# Altium footprint library Connectors.PcbLib: 26 footprints (part 2 of 2)
Each footprint in its own frame and in the unit in brackets; x right, y up, seen from the top. Pads: shape width x height; smd on the part's side, far side on the other; paste and mask are expansions set on the pad; w line width, h text height; cw(c..) or ccw(c..) is an arc to the next point about the centre after c.
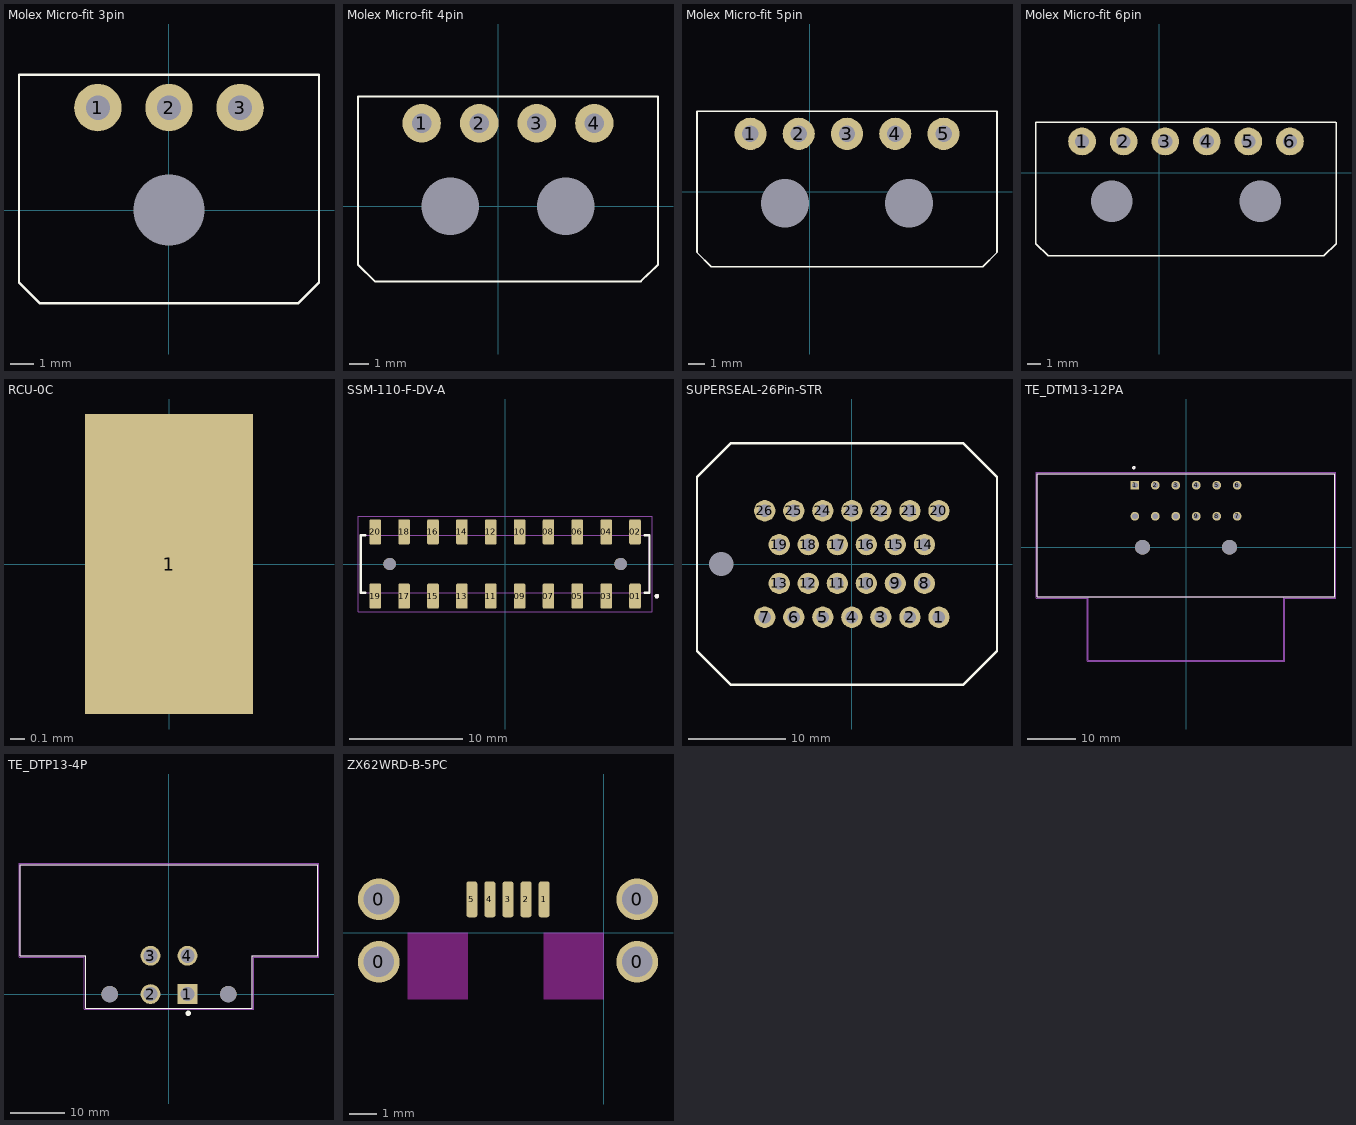
[diagram p1: the footprints below, top view; thin cyan lines are the x and y axes]

## Molex Micro-fit 3pin [mm]
pads (4):
  round 2 hole 1.02: 1(-2.997,4.32) 2(0.003,4.32) 3(3.003,4.32)
  round 0 hole 3 unplated: MH(0.003,0)
Top Overlay:
  lines w0.1: -6.322,-3.052 -6.322,5.715 6.328,5.715 6.328,-3.05 5.441,-3.935 -5.439,-3.935 -6.322,-3.052
3D body "436500302.stp": height 5.73, standoff -3.17, extent -6.325,-4.55 6.325,5.35

## Molex Micro-fit 4pin [mm]
pads (6):
  round 2 hole 1.02: 1(-3.997,4.32) 2(-0.997,4.32) 3(2.003,4.32) 4(5.003,4.32)
  round 0 hole 3 unplated: MH(-2.497,0) MH(3.503,0)
Top Overlay:
  lines w0.1: -7.322,-3.052 -7.322,5.715 8.328,5.715 8.328,-3.05 7.441,-3.935 -6.439,-3.935 -7.322,-3.052
3D body "436500402.stp": height 5.73, standoff -3.17, extent -7.325,-4.55 8.325,5.35

## Molex Micro-fit 5pin [mm]
pads (7):
  round 2 hole 1.02: 1(-3.68,3.605) 2(-0.68,3.605) 3(2.32,3.605) 4(5.32,3.605) 5(8.32,3.605)
  round 0 hole 3 unplated: MH(-1.53,-0.715) MH(6.17,-0.715)
Top Overlay:
  lines w0.1: -7,-3.767 -6.117,-4.65 10.761,-4.65 11.64,-3.765 11.64,5 -7,5 -7,-3.767
3D body "436500502.stp": height 5.73, standoff -3.17, extent -7,-5.3 11.64,4.6

## Molex Micro-fit 6pin [mm]
pads (8):
  round 2 hole 1.02: 1(-5.563,2.255) 2(-2.563,2.255) 3(0.437,2.255) 4(3.437,2.255) 5(6.437,2.255) 6(9.437,2.255)
  round 0 hole 3 unplated: MH(-3.413,-2.065) MH(7.287,-2.065)
Top Overlay:
  lines w0.1: -8.883,-5.117 -8,-6 11.878,-6 12.757,-5.115 12.757,3.65 -8.883,3.65 -8.883,-5.117
3D body "436500602.stp": height 5.73, standoff -3.17, extent -8.87,-6.65 12.77,3.25

## RCU-0C [mm]
pads (1):
  rect 1.15x2.05 smd: 1(0,0)
3D body "RCU-0C.STEP": height 1.16, standoff 0.01, extent -0.6,-0.775 0.6,0.825

## SSM-110-F-DV-A [mm]
pads (22):
  rrect25% 1.02x2.22 smd: 01(11.43,-2.825) 02(11.43,2.825) 03(8.89,-2.825) 04(8.89,2.825) 05(6.35,-2.825) 06(6.35,2.825) 07(3.81,-2.825) 08(3.81,2.825) 09(1.27,-2.825) 10(1.27,2.825) 11(-1.27,-2.825) 12(-1.27,2.825) 13(-3.81,-2.825) 14(-3.81,2.825) 15(-6.35,-2.825) 16(-6.35,2.825) 17(-8.89,-2.825) 18(-8.89,2.825) 19(-11.43,-2.825) 20(-11.43,2.825)
  round 1.09 hole 1.09 unplated: ""(-10.16,0) ""(10.16,0)
Top Overlay:
  circle w0.2: c13.35,-2.825 r0.1
  lines w0.2: -12.29,-2.54 -12.7,-2.54 -12.7,2.54 -12.29,2.54 ; 12.29,-2.54 12.7,-2.54 12.7,2.54 12.29,2.54
Mechanical 13:
  circle w0.2: c13.35,-2.825 r0.1
  lines w0.1: -12.7,-2.54 -12.7,2.54 ; -12.7,-2.54 12.7,-2.54 ; -12.7,-2.54 -12.7,2.54 ; -12.7,2.54 12.7,2.54 ; -12.7,2.54 12.7,2.54 ; 12.7,-2.54 12.7,2.54 ; 12.7,-2.54 12.7,2.54
Mechanical 15:
  lines w0.05: -12.95,-4.185 -12.95,4.185 12.95,4.185 12.95,-4.185 -12.95,-4.185
3D body "SSM-110-F-DV-A.stp": height 7.42, standoff -1.17, extent -12.7,-3.518 12.7,3.518

## SUPERSEAL-26Pin-STR [mm]
pads (27):
  round 2.2 hole 1.3: 1(9,-5.5) 2(6,-5.5) 3(3,-5.5) 4(0,-5.5) 5(-3,-5.5) 6(-6,-5.5) 7(-9,-5.5) 8(7.5,-2) 9(4.5,-2) 10(1.5,-2) 11(-1.5,-2) 12(-4.5,-2) 13(-7.5,-2) 14(7.5,2) 15(4.5,2) 16(1.5,2) 17(-1.5,2) 18(-4.5,2) 19(-7.5,2) 20(9,5.5) 21(6,5.5) 22(3,5.5) 23(0,5.5) 24(-3,5.5) 25(-6,5.5) 26(-9,5.5)
  round 0 hole 2.5: 27(-13.5,0)
Top Overlay:
  lines w0.254: -16,-9 -12.5,-12.5 11.5,-12.5 15,-9 15,9 11.5,12.5 -12.5,12.5 -16,9 -16,-9
3D body "c-6437288-6-d-3d.stp": height 24.71, standoff -4.49, extent -19.5,-19.5 19.5,17

## TE_DTM13-12PA [mm]
pads (14):
  rect 1.8x1.8 hole 1.2: 1(-10.48,12.7)
  round 1.8 hole 1.2: 2(-6.29,12.7) 3(-2.1,12.7) 4(2.1,12.7) 5(6.29,12.7) 6(10.48,12.7) 7(10.48,6.35) 8(6.29,6.35) 9(2.1,6.35) 10(-2.1,6.35) 11(-6.29,6.35) 12(-10.48,6.35)
  round 3.04 hole 3.04 unplated: ""(-8.89,0) ""(8.89,0)
Top Overlay:
  circle w0.3: c-10.7,16.3 r0.2
  lines w0.127: -30.48,-10.16 30.48,-10.16 30.48,15.1 -30.48,15.1 -30.48,-10.16
Mechanical 13:
  circle w0.3: c-10.7,16.3 r0.2
  lines w0.127: -20.005,-10.16 20.005,-10.16 ; -20.005,-10.16 -30.48,-10.16 -30.48,15.1 30.48,15.1 30.48,-10.16 20.005,-10.16 ; -20.005,-10.16 -20.005,-23.11 20.005,-23.11 20.005,-10.16
Mechanical 15:
  lines w0.05: -30.73,-10.41 -20.25,-10.41 -20.25,-23.36 20.25,-23.36 20.25,-10.41 30.73,-10.41 30.73,15.35 -30.73,15.35 -30.73,-10.41
3D body "c-dtm13-12pa-99-3d.stp": height 34.56, standoff -3.04, extent -30.482,-23.114 30.478,15.1

## TE_DTP13-4P [mm]
pads (6):
  rect 3.606x3.606 hole 2.59: 1(3.355,0)
  round 3.606 hole 2.59: 2(-3.355,0) 3(-3.355,6.99) 4(3.355,6.99)
  round 2.99 hole 2.99 unplated: ""(-10.795,0) ""(10.795,0)
Top Overlay:
  circle w0.5: c3.5,-3.5 r0.25
  lines w0.127: -27.05,7 -27.05,23.5 27.05,23.5 27.05,7 15.115,7 15.115,-2.54 -15.115,-2.54 -15.115,7 -27.05,7
Mechanical 13:
  lines w0.127: -27.05,7 -27.05,23.5 27.05,23.5 27.05,7 15.115,7 15.115,-2.54 -15.115,-2.54 -15.115,7 -27.05,7
Mechanical 15:
  lines w0.05: -27.3,6.7 -15.4,6.7 -15.4,-2.8 15.4,-2.8 15.4,6.7 27.3,6.7 27.3,23.8 -27.3,23.8 -27.3,6.7
3D body "c-dtp13-4p-b-3d.stp": height 36.53, standoff -3.82, extent -27.049,-4.318 27.053,42.342

## ZX62WRD-B-5PC [mm] "USB - micro B USB 2.0 Receptacle Connector 5 Position Surface Mount, Right Angle; Through Hole"
height 2.88
pads (9):
  round 1.5 hole 1.1: 0(-8.105,-1.05) 0(-8.105,1.2) 0(1.195,-1.05) 0(1.195,1.2)
  rrect50% 0.4x1.3 smd: 1(-2.155,1.2) 2(-2.805,1.2) 3(-3.455,1.2) 4(-4.105,1.2) 5(-4.755,1.2)
Keep-Out Layer:
  board cut-out: -7.06,-2.405 -4.9,-2.405 -4.9,-0.005 -7.06,-0.005
  board cut-out: -2.16,-2.4 0,-2.4 0,0 -2.16,0
3D body "ZX62WRD-B-5PC.stp": height 2.88, standoff -0.75, extent -8.255,-3.28 1.345,1.805